# EAGLE library part ER-OLED_0.96 (library Displays)
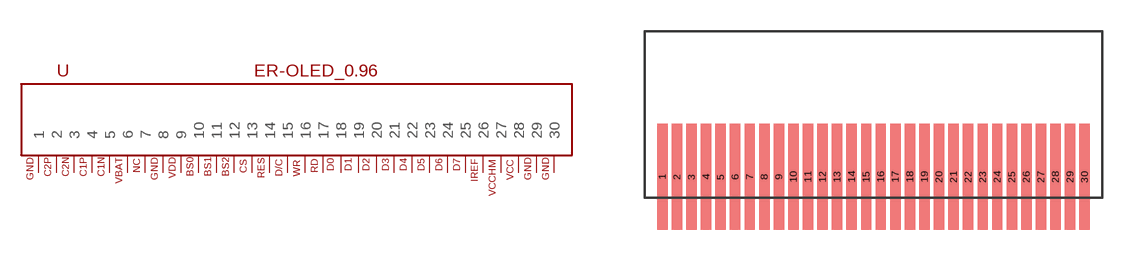
[diagram p0: symbol with the pads of 30PIN; footprint 30PIN]

Designator prefix -

## ER-OLED_0.96  [30PIN]
1  1
2  2
3  3
4  4
5  5
6  6
7  7
8  8
9  9
10  10
11  11
12  12
13  13
14  14
15  15
16  16
17  17
18  18
19  19
20  20
21  21
22  22
23  23
24  24
25  25
26  26
27  27
28  28
29  29
30  30

## Footprint 30PIN (pad centres in mm)
smd 0.5 x 5.08: 1 -10.15,1; 2 -9.45,1; 3 -8.75,1; 4 -8.05,1; 5 -7.35,1; 6 -6.65,1; 7 -5.95,1; 8 -5.25,1; 9 -4.55,1; 10 -3.85,1; 11 -3.15,1; 12 -2.45,1; 13 -1.75,1; 14 -1.05,1; 15 -0.35,1; 16 0.35,1; 17 1.05,1; 18 1.75,1; 19 2.45,1; 20 3.15,1; 21 3.85,1; 22 4.55,1; 23 5.25,1; 24 5.95,1; 25 6.65,1; 26 7.35,1; 27 8.05,1; 28 8.75,1; 29 9.45,1; 30 10.15,1